# Altium footprint library S2B-ZR-SM4A-TF_LF__SN_.PcbLib: 1 footprints
Each footprint in its own frame and in the unit in brackets; x right, y up, seen from the top. Pads: shape width x height; smd on the part's side, far side on the other; paste and mask are expansions set on the pad; w line width, h text height; cw(c..) or ccw(c..) is an arc to the next point about the centre after c.
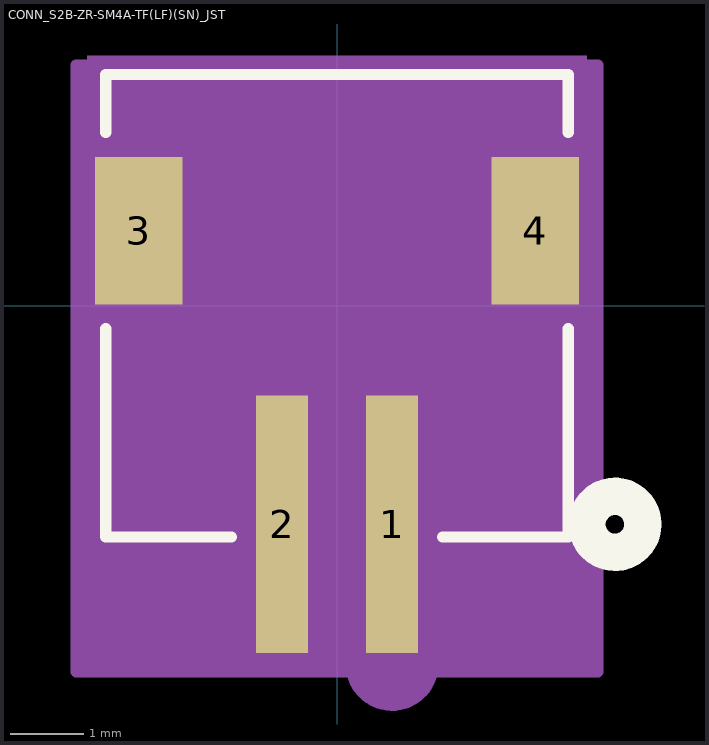
[diagram p0: the footprint, top view; thin cyan lines are the x and y axes]

## CONN_S2B-ZR-SM4A-TF(LF)(SN)_JST [mil]
pads (4):
  rect 28x138 smd paste+0 mask+0: 1(29.5,-117.22) 2(-29.5,-117.22)
  rect 47x79 smd: 3(-106.3,40.26) 4(106.3,40.26)
Top Overlay:
  circle w20: c149,-117.22 r15
  lines w6: -124,-12.34 -124,-124 -56.6,-124 ; -124,92.86 -124,124 124,124 124,92.86 ; 56.6,-124 124,-124 124,-12.34
Bottom Overlay:
  circle w20: c149,-117.22 r15
Mechanical 5:
  region: -134,134 134,134 134,-134 -134,-134
Mechanical 13:
  circle w20: c29.5,-192.22 r15
  lines w1: -119,-119 119,-119 119,119 -119,119 -119,-119
Mechanical 15:
  region: 139.8,129 -139.8,129 -139.8,-196.22 139.8,-196.22
  lines w6: -139.8,-196.22 -139.8,129 139.8,129 139.8,-196.22 -139.8,-196.22
3D body: height 10, standoff 0, extent 0,0 10,10